# Altium schematic symbol library conn_rf.SchLib: 24 symbols
Pins are listed as number, name and electrical type; pins without a type are passive.

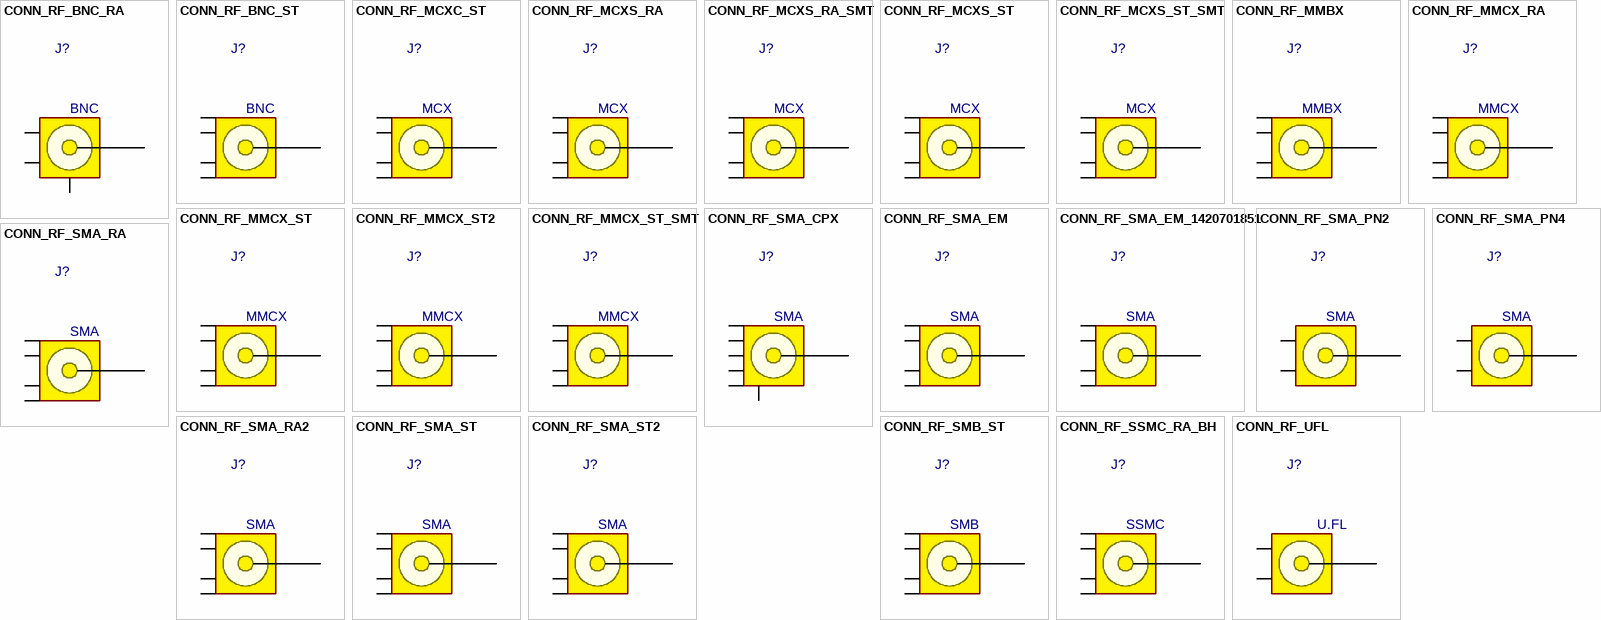
[diagram p0: symbols CONN_RF_BNC_RA to CONN_RF_UFL]

## CONN_RF_BNC_RA
designator J?, comment BNC
CONN, RF, BNC, STRAIGHT; MANF_P#: 5413515-9; MANF: TE; PARAM: 50Ohm, -GHz; DESC: DESCRIPTION; DIST#: MOUSER; PARAM2: GOLD; ASSEMBLY: ASSEMBLY; PRICE: 5$; VALUE: BNC
footprint BNC_RA (BNC connector, right angle PCB-mounted Elbow)
pins: 1 SIG, 2 GND, MH1, MH2

## CONN_RF_BNC_ST
designator J?, comment BNC
CONN, RF, BNC, STRAIGHT; PARAM: 50Ohm, 6GHz; DESC: DESCRIPTION; DIST#: MOUSER; PARAM2: GOLD; MANF_P#: -; MANF: -; ASSEMBLY: ASSEMBLY; PRICE: 5$; VALUE: BNC
footprint BNC_ST (BNC Short Connector)
pins: 1 SIG, 2 G1, 3 G2, 4 G3, 5 G4

## CONN_RF_MCXC_ST
designator J?, comment MCX
CONN, RF, MCX, STRAIGHT, CIRCULAR; PARAM: 50Ohm, 6GHz; DESC: DESCRIPTION; DIST#: MOUSER; PARAM2: GOLD; MANF_P#: -; MANF: -; ASSEMBLY: ASSEMBLY; PRICE: 5$; VALUE: MCX
footprint MCXC_ST (CONN, RF, MCX, CIRCULAR, STRAIGHT)
pins: 1 SIG, 2 G1, 3 G2, 4 G3, 5 G4

## CONN_RF_MCXS_RA
designator J?, comment MCX
CONN, RF, MCX, STRAIGHT, SQUARE; MANF_P#: 0733660030; MANF: Molex,; PARAM: 50Ohm, 6GHz; DESC: DESCRIPTION; DIST#: MOUSER; PARAM2: GOLD; ASSEMBLY: ASSEMBLY; PRICE: 2.6$; VALUE: MCX
footprint MCXS_RA (Footprint not found)
pins: 1 SIG, 2 G1, 3 G2, 4 G3, 5 G4

## CONN_RF_MCXS_RA_SMT
designator J?, comment MCX
CONN, RF, MCX, STRAIGHT, SQUARE; MANF_P#: 133-3711-301; MANF: Cinch Johnson; PARAM: 50Ohm, 6GHz; DESC: DESCRIPTION; DIST#: MOUSER; PARAM2: GOLD; ASSEMBLY: ASSEMBLY; PRICE: 7$; VALUE: MCX
footprint MCXS_RA_SMT (Footprint not found)
pins: 1 SIG, 2 G1, 3 G2, 4 G3, 5 G4

## CONN_RF_MCXS_ST
designator J?, comment MCX
CONN, RF, MCX, STRAIGHT, SQUARE; MANF_P#: 0733660061, MCX-J-P-H-ST-TH1, 252105, 133-3701-211; MANF: Molex, SAMTEC, Amphenol, Cinch Johnson; PARAM: 50Ohm, 6GHz; DESC: DESCRIPTION; DIST#: MOUSER; PARAM2: GOLD; ASSEMBLY: ASSEMBLY; PRICE: 5$; VALUE: MCX
footprint MCXS_ST (CONN, RF, MCX, SQUARE, STRAIGHT)
pins: 1 SIG, 2 G1, 3 G2, 4 G3, 5 G4

## CONN_RF_MCXS_ST_SMT
designator J?, comment MCX
CONN, RF, MCX, STRAIGHT, SQUARE; MANF_P#: 0734151692, 133-3711-202; MANF: Molex, Cinch Johnson; PARAM: 50Ohm, 6GHz; DESC: DESCRIPTION; DIST#: MOUSER; PARAM2: GOLD; ASSEMBLY: ASSEMBLY; PRICE: 3$; VALUE: MCX
footprint MCXS_ST_SMT (Footprint not found)
pins: 1 SIG, 2 G1, 3 G2, 4 G3, 5 G4

## CONN_RF_MMBX
designator J?, comment MMBX
CONN, RF, MMBX, STRAIGHT (B2B CONN); MANF_P#: 82_MMBX-S50-0-1/111_NM; MANF: HUBER+SUHNER; PARAM: 50Ohm, 12GHz; DESC: alt p#: Radiall R223424000; DIST#: MOUSER; PARAM2: GOLD; ASSEMBLY: ASSEMBLY; PRICE: 6.7$; VALUE: MMBX
footprint MMBX_ST
pins: 1 SIG, 2 G1, 3 G2, 4 G3, 5 G4

## CONN_RF_MMCX_RA
designator J?, comment MMCX
CONN, RF, MMCX, RIGHT ANGLE; MANF_P#: 1-1634010-0, 1408151, CONMMCX002; MANF: TE, Linx; PARAM: 50Ohm, 6GHz; DESC: DESCRIPTION; DIST#: MOUSER; PARAM2: GOLD; ASSEMBLY: ASSEMBLY; PRICE: 5$; VALUE: MMCX
footprint MMCX_RA (RF connector, right-angle THD, TE 1-1634010-0, TE 1408151)
pins: 1 SIG, 2 G1, 3 G2, 4 G3, 5 G4

## CONN_RF_MMCX_ST
designator J?, comment MMCX
CONN, RF, MMCX, STRAIGHT; MANF: TE, Linx; PARAM: 50Ohm, 6GHz; DESC: DESCRIPTION; DIST#: MOUSER; PARAM2: GOLD; MANF_P#: -; ASSEMBLY: ASSEMBLY; PRICE: 5$; VALUE: MMCX
footprint MMCX_ST
pins: 1 SIG, 2 G1, 3 G2, 4 G3, 5 G4

## CONN_RF_MMCX_ST2
designator J?, comment MMCX
CONN, RF, MMCX, STRAIGHT; MANF_P#: MMCX-J-P-X-ST-MT1; MANF: Samtec; PARAM: 50Ohm, 6GHz; DESC: DESCRIPTION; DIST#: MOUSER; PARAM2: GOLD; ASSEMBLY: ASSEMBLY; PRICE: 5$; VALUE: MMCX
footprint MMCX_ST2 (MMCX-J-P-X-ST-MT1 straight smt pin with 4 tht ground pin)
pins: 1 SIG, 2 G1, 3 G2, 4 G3, 5 G4

## CONN_RF_MMCX_ST_SMT
designator J?, comment MMCX
CONN, RF, MMCX, STRAIGHT; MANF_P#: PCB.MMCX.F.ST.SMT.JACK.HT; MANF: Taoglas; PARAM: 50Ohm, 6GHz; DESC: DESCRIPTION; DIST#: MOUSER; PARAM2: GOLD; ASSEMBLY: ASSEMBLY; PRICE: 3.6$; VALUE: MMCX
footprint MMCX_ST_SMT (MMCX PCB-JCK SMT straight)
pins: 1 SIG, 2 G1, 3 G2, 4 G3, 5 G4

## CONN_RF_SMA_CPX
designator J?, comment SMA
CONN, RF, SMA, STRAIGHT, COMPLEX THD SMT; DESC: DESCRIPTION; MANF_P#: -; MANF: -; ASSEMBLY: ASSEMBLY; PARAM: -; PRICE: -; DIST#: -; PARAM2: -; VALUE: SMA
footprint SMA_ST_CPX (SMA_ST COMPLEX THD SMT)
pins: 1 SIG, 2 G1, 3 G2, 4 G3, 5 G4, 6 G5, 7 G6

## CONN_RF_SMA_EM
designator J?, comment SMA
CONN, RF, SMA, Edge mounting; MANF_P#: SMA-J-P-H-ST-EM1; MANF: Samtec; PARAM: 50Ohm, 20GHz; DESC: DESCRIPTION; DIST#: DIGIKEY; PARAM2: GOLD; ASSEMBLY: ASSEMBLY; PRICE: 4.3$; VALUE: SMA
footprint SMA_EM (SMA-J-P-H-ST-EM1 edge mounting)
pins: 1 SIG, 2 G1, 3 G2, 4 G3, 5 G4

## CONN_RF_SMA_EM_1420701851
designator J?, comment SMA
CONN, RF, SMA, Edge mounting; MANF_P#: 142-0701-851; MANF: Johnson/Belfuse; PARAM: 50Ohm, 18GHz; DESC: DESCRIPTION; DIST#: DIGIKEY; PARAM2: GOLD; ASSEMBLY: ASSEMBLY; PRICE: 5$; VALUE: SMA
footprint SMA_EM_1420701851 (Footprint not found)
pins: 1 SIG, 2 G1, 3 G2, 4 G3, 5 G4

## CONN_RF_SMA_PN2
designator J?, comment SMA
CONN, RF, SMA, Wall mounting 1pin; MANF_P#: SMA-J-P-H-ST-PN2, 73251-0250; MANF: Samtec, MOLEX; PARAM: 50Ohm, 18GHz; DESC: DESCRIPTION; DIST#: DIGIKEY, MOUSER; PARAM2: GOLD; ASSEMBLY: ASSEMBLY; PRICE: 5$; VALUE: SMA
footprint SMA_PN2 (SMA-J-P-H-ST-PN2, 1pin Wall mounting)
pins: 1 SIG, 2 G1, 3 G2

## CONN_RF_SMA_PN4
designator J?, comment SMA
CONN, RF, SMA, Wall mounting 1pin; MANF_P#: SMA-J-P-H-ST-PN4, 132150; MANF: Samtec, Amphenol; PARAM: 50Ohm, 18GHz; DESC: DESCRIPTION; DIST#: DIGIKEY, MOUSER; PARAM2: GOLD; ASSEMBLY: ASSEMBLY; PRICE: 5$; VALUE: SMA
footprint SMA_PN4 (SMA-J-P-H-ST-PN4 1pin Wall mounting)
pins: 1 SIG, 2 G1, 3 G2

## CONN_RF_SMA_RA
designator J?, comment SMA
CONN, RF, SMA, Right Angle; MANF_P#: SMA-J-P-H-RA-TH1; MANF: Samtec; PARAM: 50Ohm, 20GHz; DESC: DESCRIPTION; DIST#: DIGIKEY; PARAM2: GOLD; ASSEMBLY: ASSEMBLY; PRICE: 6.3$; VALUE: SMA
footprint SMA_RA (CONN, RF, COAX, SMA, RIGHT ANGLE THD)
pins: 1 SIG, 2 G1, 3 G2, 4 G3, 5 G4

## CONN_RF_SMA_RA2
designator J?, comment SMA
CONN, RF, SMA, Right Angle; MANF_P#: SMA-J-P-XX-RA-MT1; MANF: Samtec; PARAM: 50Ohm, 20GHz; DESC: DESCRIPTION; DIST#: DIGIKEY; PARAM2: GOLD; ASSEMBLY: ASSEMBLY; PRICE: 6.3$; VALUE: SMA
footprint SMA_RA2 (CONN, RF, COAX, SMA, RIGHT ANGLE, SMA-J-P-XX-RA-MT1smt pin with 4 tht pin ground)
pins: 1 SIG, 2 G1, 3 G2, 4 G3, 5 G4

## CONN_RF_SMA_ST
designator J?, comment SMA
CONN, RF, SMA, STRAIGHT; MANF_P#: 142-0701-201; MANF: Johnson; PARAM: 50Ohm, 18GHz; DESC: DESCRIPTION; DIST#: MOUSER; PARAM2: GOLD; ASSEMBLY: ASSEMBLY; PRICE: 2.7$; VALUE: SMA
footprint SMA_ST
pins: 1 SIG, 2 G1, 3 G2, 4 G3, 5 G4

## CONN_RF_SMA_ST2
designator J?, comment SMA
CONN, RF, SMA, STRAIGHT, smt pin with 4 tht pin ground; MANF_P#: SMA-J-P-X-ST-MT1; MANF: Samtec; PARAM: 50Ohm, 20GHz; DESC: DESCRIPTION; DIST#: DIGIKEY; PARAM2: GOLD; ASSEMBLY: ASSEMBLY; PRICE: 7$; VALUE: SMA
footprint SMA_ST2 (SMA-J-P-X-ST-MT1 straight smt pin with 4 tht pin ground)
pins: 1 SIG, 2 G1, 3 G2, 4 G3, 5 G4

## CONN_RF_SMB_ST
designator J?, comment SMB
CONN, RF, SMB, STRAIGHT; PARAM: 50Ohm, 18GHz; DESC: DESCRIPTION; DIST#: MOUSER; PARAM2: GOLD; MANF_P#: -; MANF: -; ASSEMBLY: ASSEMBLY; PRICE: -; VALUE: SMB
footprint SMB_ST (High Frequency SMB Connector)
pins: 1 SIG, 2 G1, 3 G2, 4 G3, 5 G4

## CONN_RF_SSMC_RA_BH
designator J?, comment SSMC
Conn RF, right-angle THD, Jack Bulkhead; MANF_P#: FMCN1274; MANF: FairviewMicrowave; PARAM: 50Ohm, 12.4GHz; DESC: DESCRIPTION; DIST#: MOUSER; PARAM2: GOLD; ASSEMBLY: ASSEMBLY; PRICE: 5$; VALUE: SSMC
footprint SSMC_RA_BH (RF connector, right-angle THD, Jack Bulkhead)
pins: 1 SIG, 2 G1, 3 G2, 4 G3, 5 G4

## CONN_RF_UFL
designator J?, comment U.FL
CONN, RF, U.FL, STRAIGHT, Ultra Miniature Coaxial; MANF_P#: CONUFL001-SMD, U.FL-R-SMT-1(10), 128-0711-201; MANF: Linx, Hirose, Cinch; PARAM: 50Ohm, 6GHz; DESC: DESCRIPTION; DIST#: DIGIKEY, MOUSER; PARAM2: GOLD; ASSEMBLY: ASSEMBLY; PRICE: 0.9$; VALUE: U.FL
footprint UFL (CONN RF, COAX UP, U.FL-R-SMT-1 2.8x2.8mm)
pins: 1 SIG, 2 G1, 3 G2